# Altium footprint library PcbLib1.PcbLib: 23 footprints (part 1 of 2)
Each footprint in its own frame and in the unit in brackets; x right, y up, seen from the top. Pads: shape width x height; smd on the part's side, far side on the other; paste and mask are expansions set on the pad; w line width, h text height; cw(c..) or ccw(c..) is an arc to the next point about the centre after c.
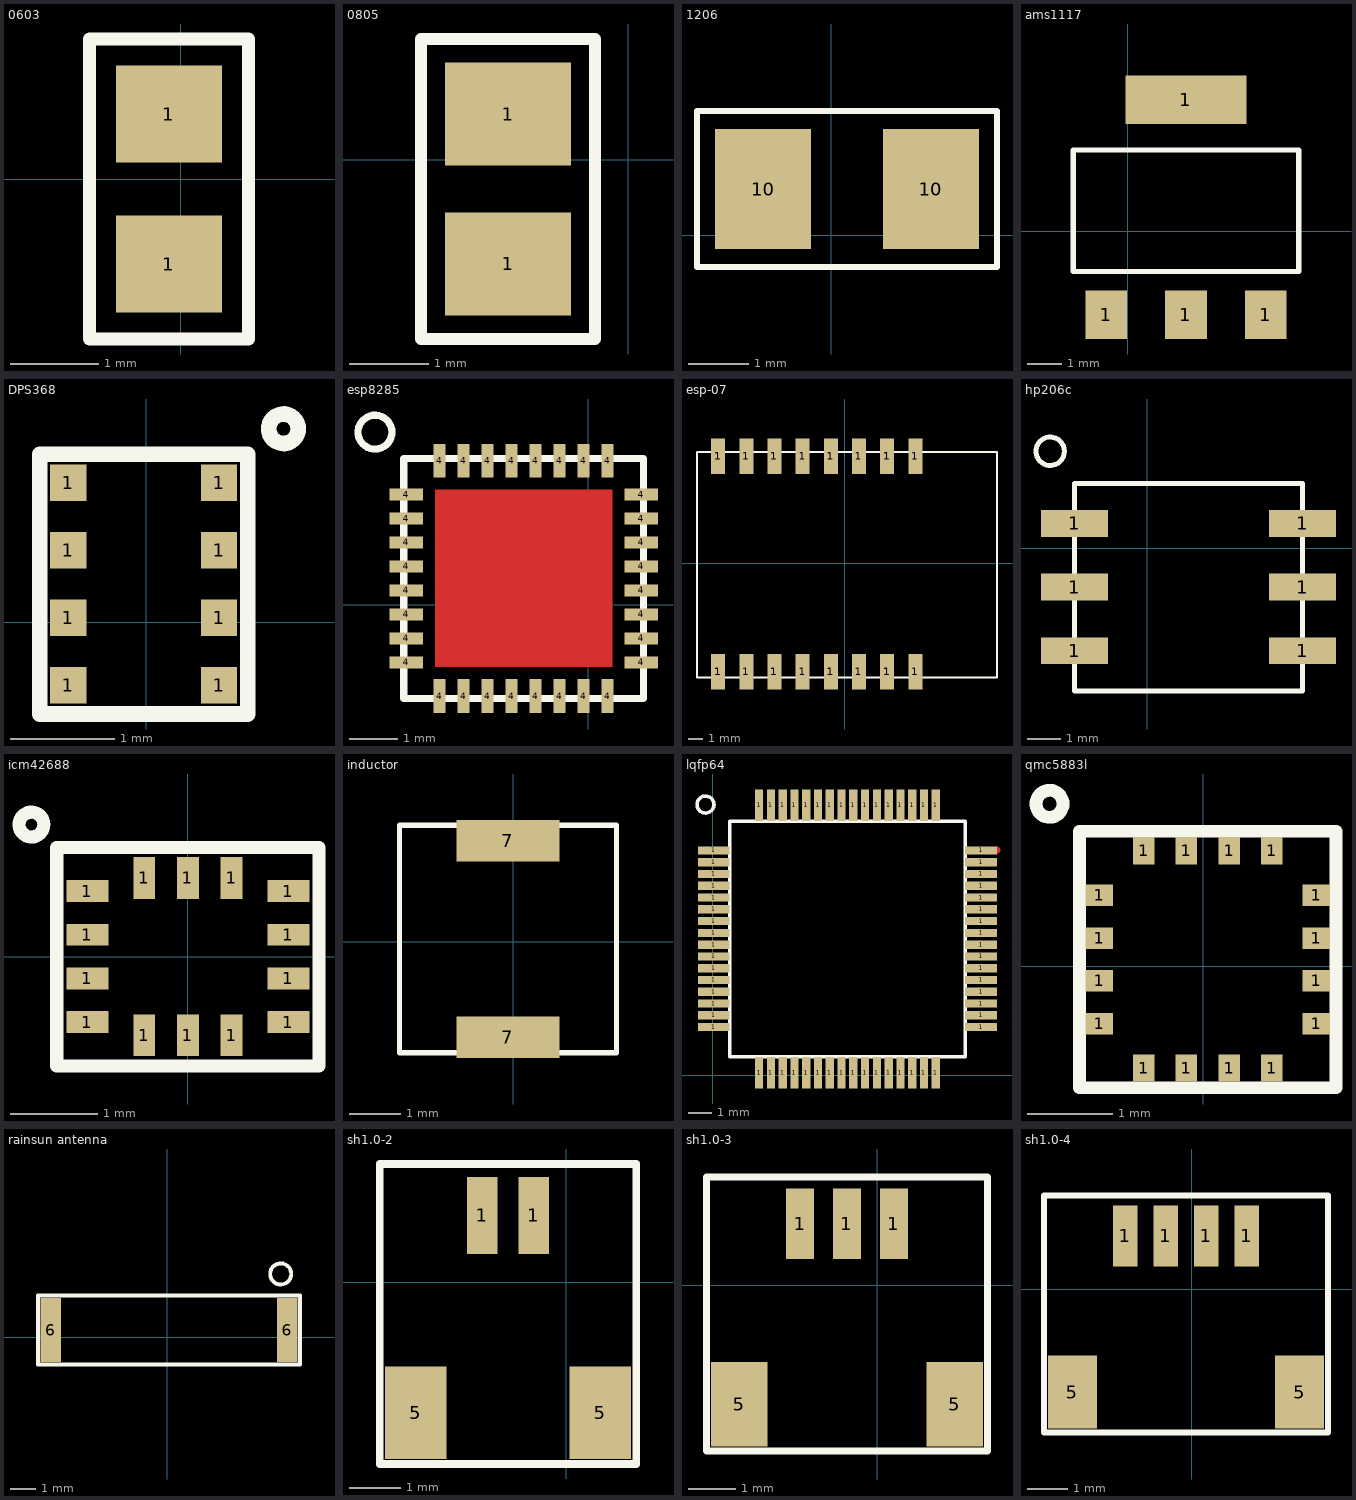
[diagram p0: the footprints below, top view; thin cyan lines are the x and y axes]

## 0603 [mm] "0603"
height 3
pads (2):
  rect 1.2x1.1 smd: 1(-0.136,-0.963) 1(-0.136,0.737)
Top Overlay:
  lines w0.15: -1.036,1.587 0.765,1.587 ; -1.036,1.587 -1.036,-1.813 0.765,-1.813 ; -1.036,1.587 0.764,1.587 ; 0.765,-1.813 0.765,1.587 ; 0.764,-1.813 0.764,1.587

## 0805 [mm] "0805"
pads (2):
  rect 1.6x1.3 smd: 1(-1.524,-1.319) 1(-1.524,0.581)
Top Overlay:
  lines w0.15: -2.624,-2.269 -0.424,-2.269 -0.424,1.531 -2.624,1.531 -2.624,-2.269

## 1206 [mm] "1206"
pads (2):
  rect 1.6x2 smd: 10(-1.14,0.77) 10(1.66,0.77)
Top Overlay:
  lines w0.1: -2.24,-0.53 2.76,-0.53 2.76,2.07 -2.24,2.07 -2.24,-0.53

## ams1117 [mm] "ams1117"
pads (4):
  rect 1.2x1.4 smd: 1(-0.615,-2.406) 1(1.685,-2.406) 1(3.985,-2.406)
  rect 3.5x1.4 smd: 1(1.685,3.794)
Top Overlay:
  lines w0.15: -1.565,-1.156 4.935,-1.156 4.935,2.344 -1.565,2.344 -1.565,-1.156

## DPS368 [mm] "DPS368"
pads (8):
  rect 0.35x0.35 smd: 1(-0.75,-0.61) 1(-0.75,0.04) 1(-0.75,0.69) 1(-0.75,1.34) 1(0.7,-0.61) 1(0.7,0.04) 1(0.7,0.69) 1(0.7,1.34)
Top Overlay:
  circle w0.15: c1.32,1.86 r0.142
  lines w0.15: -1.025,-0.885 0.975,-0.885 0.975,1.615 -1.025,1.615 -1.025,-0.885

## esp8285 [mm] "esp8285"
pads (32):
  rect 0.7x0.25 smd: 4(-3.8,-1.2) 4(-3.8,-0.7) 4(-3.8,-0.2) 4(-3.8,0.3) 4(-3.8,0.8) 4(-3.8,1.3) 4(-3.8,1.8) 4(-3.8,2.3) 4(1.1,-1.2) 4(1.1,-0.7) 4(1.1,-0.2) 4(1.1,0.3) 4(1.1,0.8) 4(1.1,1.3) 4(1.1,1.8) 4(1.1,2.3)
  rect 0.25x0.7 smd: 4(-3.1,-1.9) 4(-3.1,3) 4(-2.6,-1.9) 4(-2.6,3) 4(-2.1,-1.9) 4(-2.1,3) 4(-1.6,-1.9) 4(-1.6,3) 4(-1.1,-1.9) 4(-1.1,3) 4(-0.6,-1.9) 4(-0.6,3) 4(-0.1,-1.9) 4(-0.1,3) 4(0.4,-1.9) 4(0.4,3)
Top Layer:
  rectangle: -3.2,-1.3 0.5,2.4
Top Overlay:
  circle w0.15: c-4.45,3.6 r0.354
  lines w0.15: -3.85,-1.95 1.15,-1.95 1.15,3.05 -3.85,3.05 -3.85,-1.95

## esp-07 [mm] "esp-07"
pads (32):
  rect 1x2.5 smd: 1(-9,-7.7) 1(-9,-7.7) 1(-9,-7.7) 1(-9,7.6) 1(-9,7.6) 1(-9,7.6) 1(-7,-7.7) 1(-7,7.6) 1(-5,-7.7) 1(-5,-7.7) 1(-5,-7.7) 1(-5,7.6) 1(-5,7.6) 1(-5,7.6) 1(-3,-7.7) 1(-3,7.6) 1(-1,-7.7) 1(-1,-7.7) 1(-1,-7.7) 1(-1,7.6) 1(-1,7.6) 1(-1,7.6) 1(1,-7.7) 1(1,7.6) 1(3,-7.7) 1(3,-7.7) 1(3,-7.7) 1(3,7.6) 1(3,7.6) 1(3,7.6) 1(5,-7.7) 1(5,7.6)
Top Layer:
  lines w0.3: -7.1,-7.61 -7.005,-7.705 ; 2.935,-7.705 3,-7.64 ; 4.89,7.585 4.92,7.615
Top Overlay:
  lines w0.15: -10.5,-8.1 10.8,-8.1 10.8,7.9 -10.5,7.9 -10.5,-8.1

## hp206c [mm] "hp206c"
pads (6):
  rect 2x0.8 smd: 1(-2.168,-3.056) 1(-2.168,-1.156) 1(-2.168,0.744) 1(4.632,-3.056) 1(4.632,-1.156) 1(4.632,0.744)
Top Overlay:
  circle w0.15: c-2.9,2.9 r0.424
  lines w0.15: -2.168,-4.256 -2.168,1.944 4.632,1.944 4.632,-4.256 -2.168,-4.256

## icm42688 [mm] "icm42688"
pads (14):
  rect 0.48x0.25 smd: 1(-1.15,-0.75) 1(-1.15,-0.25) 1(-1.15,0.25) 1(-1.15,0.75) 1(1.15,-0.75) 1(1.15,-0.25) 1(1.15,0.25) 1(1.15,0.75)
  rect 0.25x0.48 smd: 1(-0.5,-0.9) 1(-0.5,0.9) 1(0,-0.9) 1(0,0.9) 1(0.5,-0.9) 1(0.5,0.9)
Top Overlay:
  circle w0.15: c-1.79,1.51 r0.142
  lines w0.15: -1.5,-1.25 1.5,-1.25 1.5,1.25 -1.5,1.25 -1.5,-1.25

## inductor [mm] "inductor"
pads (2):
  rect 2x0.8 smd: 7(-0.1,-1.85) 7(-0.1,1.95)
Top Overlay:
  lines w0.1: -2.2,-2.15 2,-2.15 2,2.25 -2.2,2.25 -2.2,-2.15

## lqfp64 [mm] "lqfp64"
pads (64):
  rect 1.35x0.35 smd: 1(0.052,2.051) 1(0.052,2.551) 1(0.052,3.051) 1(0.052,3.551) 1(0.052,4.051) 1(0.052,4.551) 1(0.052,5.051) 1(0.052,5.551) 1(0.052,6.051) 1(0.052,6.551) 1(0.052,7.051) 1(0.052,7.551) 1(0.052,8.051) 1(0.052,8.551) 1(0.052,9.051) 1(0.052,9.551) 1(11.402,2.051) 1(11.402,2.551) 1(11.402,3.051) 1(11.402,3.551) 1(11.402,4.051) 1(11.402,4.551) 1(11.402,5.051) 1(11.402,5.551) 1(11.402,6.051) 1(11.402,6.551) 1(11.402,7.051) 1(11.402,7.551) 1(11.402,8.051) 1(11.402,8.551) 1(11.402,9.051) 1(11.402,9.551)
  rect 0.35x1.35 smd: 1(1.977,0.116) 1(1.977,11.466) 1(2.477,0.116) 1(2.477,11.466) 1(2.977,0.116) 1(2.977,11.466) 1(3.477,0.116) 1(3.477,11.466) 1(3.977,0.116) 1(3.977,11.466) 1(4.477,0.116) 1(4.477,11.466) 1(4.977,0.116) 1(4.977,11.466) 1(5.477,0.116) 1(5.477,11.466) 1(5.977,0.116) 1(5.977,11.466) 1(6.477,0.116) 1(6.477,11.466) 1(6.977,0.116) 1(6.977,11.466) 1(7.477,0.116) 1(7.477,11.466) 1(7.977,0.116) 1(7.977,11.466) 1(8.477,0.116) 1(8.477,11.466) 1(8.977,0.116) 1(8.977,11.466) 1(9.477,0.116) 1(9.477,11.466)
Top Layer:
  lines w0.3: 2.977,11.466 2.977,11.476 ; 3.477,11.466 3.477,11.476 ; 3.977,11.376 3.977,11.466 ; 4.477,11.376 4.477,11.466 ; 6.477,11.466 6.477,11.476 ; 11.402,9.551 12.062,9.551 12.077,9.566
Top Overlay:
  circle w0.15: c-0.3,11.5 r0.361
  lines w0.15: 0.727,0.796 10.727,0.796 10.727,10.796 0.727,10.796 0.727,0.796

## qmc5883l [mm] "qmc5883l"
pads (16):
  rect 0.32x0.25 smd: 1(-1.22,-0.67) 1(-1.22,-0.17) 1(-1.22,0.33) 1(-1.22,0.83) 1(1.32,-0.67) 1(1.32,-0.17) 1(1.32,0.33) 1(1.32,0.83)
  rect 0.25x0.32 smd: 1(-0.7,-1.19) 1(-0.7,1.35) 1(-0.2,-1.19) 1(-0.2,1.35) 1(0.3,-1.19) 1(0.3,1.35) 1(0.8,-1.19) 1(0.8,1.35)
Top Overlay:
  circle w0.15: c-1.8,1.9 r0.158
  lines w0.15: -1.45,-1.42 1.55,-1.42 1.55,1.58 -1.45,1.58 -1.45,-1.42

## rainsun antenna [mm] "rainsun antenna"
pads (2):
  rect 0.8x2.5 smd: 6(-4.55,0.28) 6(4.7,0.28)
Top Overlay:
  circle w0.15: c4.45,2.48 r0.412
  lines w0.15: -5.05,-1.07 5.2,-1.07 5.2,1.63 -5.05,1.63 -5.05,-1.07

## sh1.0-2 [mm] "sh1.0"
pads (4):
  rect 0.6x1.5 smd: 1(-1.64,1.31) 1(-0.64,1.31)
  rect 1.2x1.8 smd: 5(-2.94,-2.54) 5(0.66,-2.54)
Top Overlay:
  lines w0.15: -3.64,-3.54 1.36,-3.54 1.36,2.31 -3.64,2.31 -3.64,-3.54

## sh1.0-3 [mm] "sh1.0"
pads (5):
  rect 0.6x1.5 smd: 1(-1.64,1.31) 1(-0.64,1.31) 1(0.36,1.31)
  rect 1.2x1.8 smd: 5(-2.94,-2.54) 5(1.66,-2.54)
Top Overlay:
  lines w0.15: -3.64,-3.54 2.36,-3.54 2.36,2.31 -3.64,2.31 -3.64,-3.54

## sh1.0-4 [mm] "sh1.0"
pads (6):
  rect 0.6x1.5 smd: 1(-1.64,1.31) 1(-0.64,1.31) 1(0.36,1.31) 1(1.36,1.31)
  rect 1.2x1.8 smd: 5(-2.94,-2.54) 5(2.66,-2.54)
Top Overlay:
  lines w0.15: -3.64,-3.54 3.36,-3.54 3.36,2.31 -3.64,2.31 -3.64,-3.54